# Altium schematic symbol library ADL5562ACPZ-R7.SchLib: 2 symbols
Pins are listed as number, name and electrical type; pins without a type are passive.

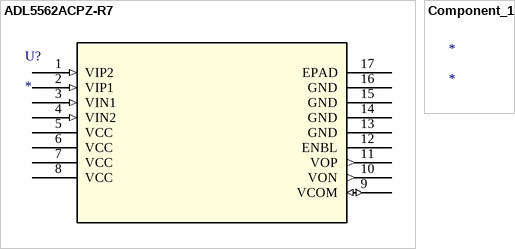
[diagram p0: symbols ADL5562ACPZ-R7 to Component_1]

## ADL5562ACPZ-R7
designator U?
No Description Available; Mfr_Name: Analog Devices Inc; RefDes: RefDes; Type: Type
footprint CP_16_2_ADI
pins: 1 VIP2 (in), 2 VIP1 (in), 3 VIN1 (in), 4 VIN2 (in), 5 VCC (power), 6 VCC (power), 7 VCC (power), 8 VCC (power), 9 VCOM (io), 10 VON (out), 11 VOP (out), 12 ENBL, 13 GND (power), 14 GND (power), 15 GND (power), 16 GND (power), 17 EPAD

## Component_1
designator *